# EAGLE library part CCS811 (library SparkFun-Sensors_Smight)
AMS CCS811 – I2C Digital Gas Sensor Ultra-Low Power Digital Gas Sensor for Monitoring Indoor Air Quality AMS Product Page <http://ams.com/eng/Products/Environmental-Sensors/Gas-Sensors/CCS811> SparkFun Products:
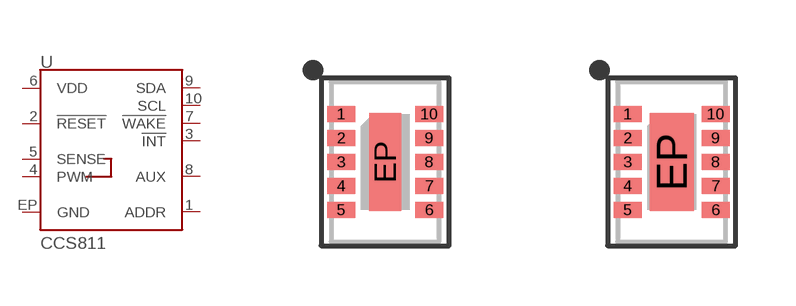
[diagram p39: symbol with the pads of LGA10-MILLABLE; footprints LGA10-MILLABLE, LGA10]

Designator prefix U

## CCS811SKINNY  [LGA10-MILLABLE]
1  ADDR
2  !RESET!
3  !INT!
4  PWM
5  SENSE
6  VDD
7  !WAKE!
8  AUX
9  SDA
10  SCL
EP  GND

## CCS811PRODUCTION (PROD_ID: IC-13607; VALUE: CCS811)  [LGA10]
Pads as for LGA10-MILLABLE

## Footprint LGA10-MILLABLE (pad centres in mm)
10-pin LGA package - 2.7 x 4.0mm, 0.6mm pitch Package specifications: Pin Count: 10 (+ exposed pad) Dimensions: 2.7mm x 4.0mm x 1.1mm Pitch: 0.6mm Used by: CCS811
smd 0.7 x 0.4: 1 -1.1,1.2; 2 -1.1,0.6; 3 -1.1,0; 4 -1.1,-0.6; 5 -1.1,-1.2; 6 1.1,-1.2; 7 1.1,-0.6; 8 1.1,0; 9 1.1,0.6; 10 1.1,1.2
smd 0.8 x 2.45: EP 0,0

## Footprint LGA10 (pad centres in mm)
smd 0.7 x 0.4: 1 -1.1,1.2; 2 -1.1,0.6; 3 -1.1,0; 4 -1.1,-0.6; 5 -1.1,-1.2; 6 1.1,-1.2; 7 1.1,-0.6; 8 1.1,0; 9 1.1,0.6; 10 1.1,1.2
smd 1.1 x 2.45: EP 0,0